# Altium footprint library PcbLib1.PcbLib: 2 footprints
Each footprint in its own frame and in the unit in brackets; x right, y up, seen from the top. Pads: shape width x height; smd on the part's side, far side on the other; paste and mask are expansions set on the pad; w line width, h text height; cw(c..) or ccw(c..) is an arc to the next point about the centre after c.
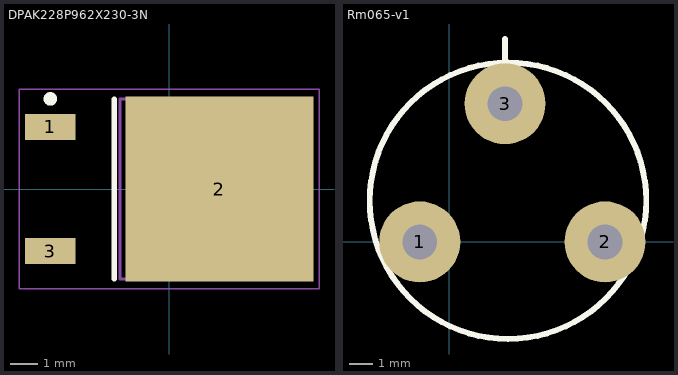
[diagram p0: the footprints below, top view; thin cyan lines are the x and y axes]

## DPAK228P962X230-3N [mm] "D-PAK, 3-Pads, Body 5.85x6.66mm (max), IPC Medium Density"
height 2.3
pads (3):
  rect 1.85x0.95 smd: 1(-4.35,2.28) 3(-4.35,-2.28)
  rect 6.9x6.8 smd: 2(1.85,0)
Top Overlay:
  circle w0.25: c-4.35,3.305 r0.125
  lines w0.2: -2,-3.3 -2,3.3
Mechanical 13:
  lines w0.1: -1.8,-3.3 -1.8,3.3 3.7,3.3 3.7,-3.3 -1.8,-3.3
Mechanical 15:
  lines w0.05: -5.5,-3.65 -5.5,3.65 5.5,3.65 5.5,-3.65 -5.5,-3.65
  lines w0.1: -0.5,0 0.5,0 ; 0,-0.5 0,0.5
3D body: height 2.3, standoff 0.5, extent -1.8,-3.3 3.7,3.3

## Rm065-v1 [mm]
pads (3):
  round 3.5 hole 1.5: 1(-1.27,0) 2(6.731,0) 3(2.413,5.969)
Top Overlay:
  circle w0.254: c2.54,1.778 r5.97
  lines w0.254: 2.413,7.366 2.413,8.763